# Altium footprint library TSSOP-28.PcbLib: 1 footprints
Each footprint in its own frame and in the unit in brackets; x right, y up, seen from the top. Pads: shape width x height; smd on the part's side, far side on the other; paste and mask are expansions set on the pad; w line width, h text height; cw(c..) or ccw(c..) is an arc to the next point about the centre after c.
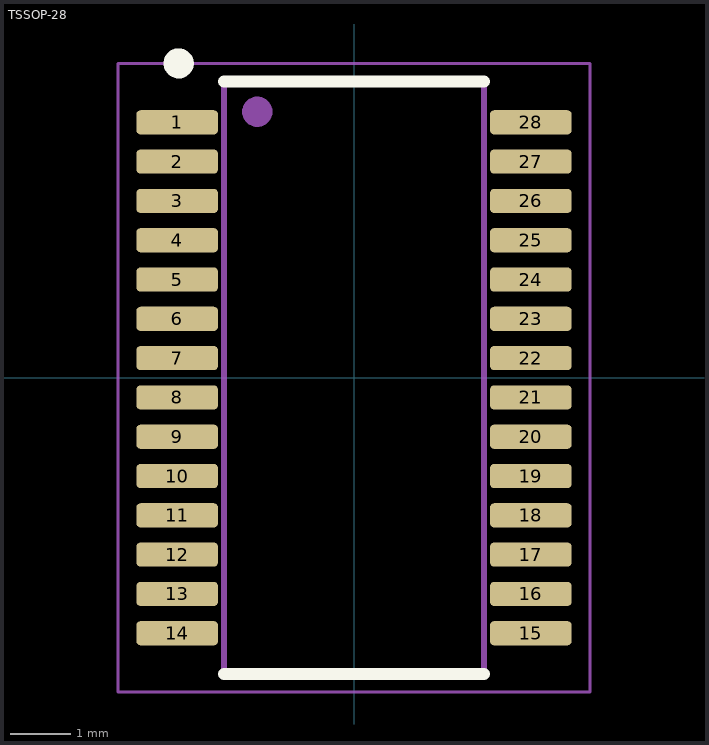
[diagram p0: the footprint, top view; thin cyan lines are the x and y axes]

## TSSOP-28 [mm] "TSSOP-28"
height 1.2
pads (28):
  rrect34% 1.35x0.4 smd mask+0.05: 1(-2.925,4.225) 2(-2.925,3.575) 3(-2.925,2.925) 4(-2.925,2.275) 5(-2.925,1.625) 6(-2.925,0.975) 7(-2.925,0.325) 8(-2.925,-0.325) 9(-2.925,-0.975) 10(-2.925,-1.625) 11(-2.925,-2.275) 12(-2.925,-2.925) 13(-2.925,-3.575) 14(-2.925,-4.225) 15(2.925,-4.225) 16(2.925,-3.575) 17(2.925,-2.925) 18(2.925,-2.275) 19(2.925,-1.625) 20(2.925,-0.975) 21(2.925,-0.325) 22(2.925,0.325) 23(2.925,0.975) 24(2.925,1.625) 25(2.925,2.275) 26(2.925,2.925) 27(2.925,3.575) 28(2.925,4.225)
Top Overlay:
  circle w0.25: c-2.9,5.2 r0.125
  lines w0.2: -2.15,-4.9 2.15,-4.9 ; -2.15,4.9 2.15,4.9
Top Assembly:
  circle w0.25: c-1.6,4.4 r0.125
  lines w0.1: -2.15,-4.9 -2.15,4.9 2.15,4.9 2.15,-4.9 -2.15,-4.9
Top Courtyard:
  lines w0.05: -3.9,-5.2 3.9,-5.2 3.9,5.2 -3.9,5.2 -3.9,-5.2
Top Designator:
  text ".Designator" at -4.998,-0.333 h1
3D body "TSSOP-28.STEP": height 1.2, standoff 0, extent -3.2,-4.85 3.2,4.85